# Altium schematic symbol library VLC_TX.SchLib: 2 symbols
Pins are listed as number, name and electrical type; pins without a type are passive.

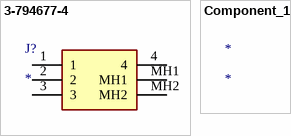
[diagram p0: symbols 3-794677-4 to Component_1]

## 3-794677-4
designator J?
Connector; Manufacturer_Name: TE Connectivity; Manufacturer_Part_Number: 3-794677-4; Datasheet Link: https://www.te.com/commerce/DocumentDelivery/DDEController?Action=srchrtrv&DocNm=micro-mate-n-lok-connector-qrg&DocType=Data%20Sheet&DocLang=English&PartCntxt=3-794677-4&DocFormat=pdf; Height: 8.67mm; Mouser Part Number: 571-3-794677-4; Mouser Price/Stock: https://www.mouser.co.uk/ProductDetail/TE-Connectivity-AMP/3-794677-4?qs=6xDM53S3Z3IXPJK6%252BrOgPw%3D%3D; Arrow Part Number: 3-794677-4; Arrow Price/Stock: https://www.arrow.com/en/products/3-794677-4/te-connectivity?region=europe
footprint 37946774
pins: 1, 2, 3, 4, MH1, MH2

## Component_1
designator *